# Altium integrated library Newport Power Mgt DC-DC Converter.IntLib: 312 symbols (part 4 of 5)
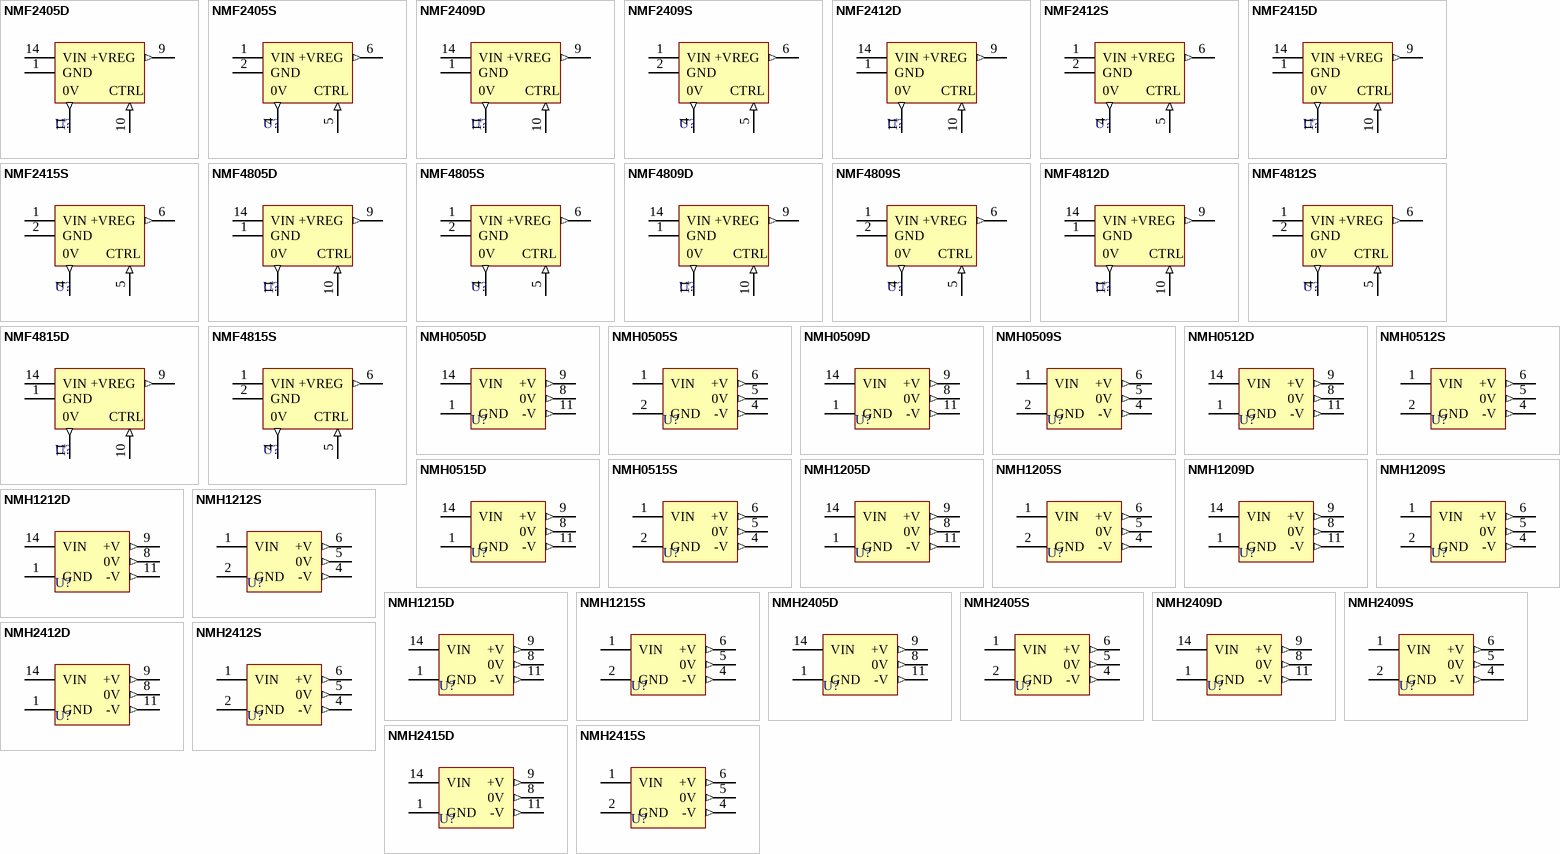
[diagram p10: symbols NMF2405D to NMH2415S]

## NMH1215D
designator U?
Isolated 2W Dual Output; Note: Pin 7 is No Internal Connection (NC) pin and is not drawn. Pins 2-6, 10, 12 and 13 are not present.; Published: 8-Jun-2000; LatestRevisionDate: 17-Jul-2002; LatestRevisionNote: PCB footprint, 'DIP-P6(14)/X1.2' replaced; Re-released for DXP Platform.; DatasheetVersion: Jul-1996; PackageVersion: 1996; PackageReference: NPDIP14; Publisher: Altium Limited; PackageDescription: DIP; 14 Rectangular pins (8 Absent); Row Space 7.62 mm; Pitch 2.54 mm; ComponentLink1Description: Manufacturer Link; ComponentLink1URL: http://www.dc-dc.com/; ComponentLink2Description: Datasheet; ComponentLink2URL: http://www.cd4power.com/data/power/ncl/ndc_nmh_3.pdf
footprint NPDIP14 (DIP; 14 Rectangular pins (8 Absent); Row Space 7.62 mm; Pitch 2.54 mm)
pins: 1 GND (power), 8 0V (out), 9 +V (out), 11 -V (out), 14 VIN (power)

## NMH1215S
designator U?
Isolated 2W Dual Output; Note: Pins 3 and 7 are not present.; Published: 8-Jun-2000; LatestRevisionDate: 17-Jul-2002; LatestRevisionNote: Re-released for DXP Platform.; DatasheetVersion: Jul-1996; PackageVersion: 1996; PackageReference: NPSIP7; Publisher: Altium Limited; PackageDescription: SIP; 7 Leads (2 Absent); Body 19.5 x 6 mm (LxW typ); Pitch 2.54 mm; ComponentLink1Description: Manufacturer Link; ComponentLink1URL: http://www.dc-dc.com/; ComponentLink2Description: Datasheet; ComponentLink2URL: http://www.cd4power.com/data/power/ncl/ndc_nmh_3.pdf
footprint NPSIP7 (SIP; 7 Leads (2 Absent); Body 19.5 x 6 mm (LxW typ); Pitch 2.54 mm)
pins: 1 VIN (power), 2 GND (power), 4 -V (out), 5 0V (out), 6 +V (out)

## NMH2405D
designator U?
Isolated 2W Dual Output; Note: Pin 7 is No Internal Connection (NC) pin and is not drawn. Pins 2-6, 10, 12 and 13 are not present.; Published: 8-Jun-2000; LatestRevisionDate: 17-Jul-2002; LatestRevisionNote: PCB footprint, 'DIP-P6(14)/X1.2' replaced; Re-released for DXP Platform.; DatasheetVersion: Jul-1996; PackageVersion: 1996; PackageReference: NPDIP14; Publisher: Altium Limited; PackageDescription: DIP; 14 Rectangular pins (8 Absent); Row Space 7.62 mm; Pitch 2.54 mm; ComponentLink1Description: Manufacturer Link; ComponentLink1URL: http://www.dc-dc.com/; ComponentLink2Description: Datasheet; ComponentLink2URL: http://www.cd4power.com/data/power/ncl/ndc_nmh_3.pdf
footprint NPDIP14 (DIP; 14 Rectangular pins (8 Absent); Row Space 7.62 mm; Pitch 2.54 mm)
pins: 1 GND (power), 8 0V (out), 9 +V (out), 11 -V (out), 14 VIN (power)

## NMH2405S
designator U?
Isolated 2W Dual Output; Note: Pins 3 and 7 are not present.; Published: 8-Jun-2000; LatestRevisionDate: 17-Jul-2002; LatestRevisionNote: Re-released for DXP Platform.; DatasheetVersion: Jul-1996; PackageVersion: 1996; PackageReference: NPSIP7; Publisher: Altium Limited; PackageDescription: SIP; 7 Leads (2 Absent); Body 19.5 x 6 mm (LxW typ); Pitch 2.54 mm; ComponentLink1Description: Manufacturer Link; ComponentLink1URL: http://www.dc-dc.com/; ComponentLink2Description: Datasheet; ComponentLink2URL: http://www.cd4power.com/data/power/ncl/ndc_nmh_3.pdf
footprint NPSIP7 (SIP; 7 Leads (2 Absent); Body 19.5 x 6 mm (LxW typ); Pitch 2.54 mm)
pins: 1 VIN (power), 2 GND (power), 4 -V (out), 5 0V (out), 6 +V (out)

## NMH2409D
designator U?
Isolated 2W Dual Output; Note: Pin 7 is No Internal Connection (NC) pin and is not drawn. Pins 2-6, 10, 12 and 13 are not present.; Published: 8-Jun-2000; LatestRevisionDate: 17-Jul-2002; LatestRevisionNote: PCB footprint, 'DIP-P6(14)/X1.2' replaced; Re-released for DXP Platform.; DatasheetVersion: Jul-1996; PackageVersion: 1996; PackageReference: NPDIP14; Publisher: Altium Limited; PackageDescription: DIP; 14 Rectangular pins (8 Absent); Row Space 7.62 mm; Pitch 2.54 mm; ComponentLink1Description: Manufacturer Link; ComponentLink1URL: http://www.dc-dc.com/; ComponentLink2Description: Datasheet; ComponentLink2URL: http://www.cd4power.com/data/power/ncl/ndc_nmh_3.pdf
footprint NPDIP14 (DIP; 14 Rectangular pins (8 Absent); Row Space 7.62 mm; Pitch 2.54 mm)
pins: 1 GND (power), 8 0V (out), 9 +V (out), 11 -V (out), 14 VIN (power)

## NMH2409S
designator U?
Isolated 2W Dual Output; Note: Pins 3 and 7 are not present.; Published: 8-Jun-2000; LatestRevisionDate: 17-Jul-2002; LatestRevisionNote: Re-released for DXP Platform.; DatasheetVersion: Jul-1996; PackageVersion: 1996; PackageReference: NPSIP7; Publisher: Altium Limited; PackageDescription: SIP; 7 Leads (2 Absent); Body 19.5 x 6 mm (LxW typ); Pitch 2.54 mm; ComponentLink1Description: Manufacturer Link; ComponentLink1URL: http://www.dc-dc.com/; ComponentLink2Description: Datasheet; ComponentLink2URL: http://www.cd4power.com/data/power/ncl/ndc_nmh_3.pdf
footprint NPSIP7 (SIP; 7 Leads (2 Absent); Body 19.5 x 6 mm (LxW typ); Pitch 2.54 mm)
pins: 1 VIN (power), 2 GND (power), 4 -V (out), 5 0V (out), 6 +V (out)

## NMH2412D
designator U?
Isolated 2W Dual Output; Note: Pin 7 is No Internal Connection (NC) pin and is not drawn. Pins 2-6, 10, 12 and 13 are not present.; Published: 8-Jun-2000; LatestRevisionDate: 17-Jul-2002; LatestRevisionNote: PCB footprint, 'DIP-P6(14)/X1.2' replaced; Re-released for DXP Platform.; DatasheetVersion: Jul-1996; PackageVersion: 1996; PackageReference: NPDIP14; Publisher: Altium Limited; PackageDescription: DIP; 14 Rectangular pins (8 Absent); Row Space 7.62 mm; Pitch 2.54 mm; ComponentLink1Description: Manufacturer Link; ComponentLink1URL: http://www.dc-dc.com/; ComponentLink2Description: Datasheet; ComponentLink2URL: http://www.cd4power.com/data/power/ncl/ndc_nmh_3.pdf
footprint NPDIP14 (DIP; 14 Rectangular pins (8 Absent); Row Space 7.62 mm; Pitch 2.54 mm)
pins: 1 GND (power), 8 0V (out), 9 +V (out), 11 -V (out), 14 VIN (power)

## NMH2412S
designator U?
Isolated 2W Dual Output; Note: Pins 3 and 7 are not present.; Published: 8-Jun-2000; LatestRevisionDate: 17-Jul-2002; LatestRevisionNote: Re-released for DXP Platform.; DatasheetVersion: Jul-1996; PackageVersion: 1996; PackageReference: NPSIP7; Publisher: Altium Limited; PackageDescription: SIP; 7 Leads (2 Absent); Body 19.5 x 6 mm (LxW typ); Pitch 2.54 mm; ComponentLink1Description: Manufacturer Link; ComponentLink1URL: http://www.dc-dc.com/; ComponentLink2Description: Datasheet; ComponentLink2URL: http://www.cd4power.com/data/power/ncl/ndc_nmh_3.pdf
footprint NPSIP7 (SIP; 7 Leads (2 Absent); Body 19.5 x 6 mm (LxW typ); Pitch 2.54 mm)
pins: 1 VIN (power), 2 GND (power), 4 -V (out), 5 0V (out), 6 +V (out)

## NMH2415D
designator U?
Isolated 2W Dual Output; Note: Pin 7 is No Internal Connection (NC) pin and is not drawn. Pins 2-6, 10, 12 and 13 are not present.; Published: 8-Jun-2000; LatestRevisionDate: 17-Jul-2002; LatestRevisionNote: PCB footprint, 'DIP-P6(14)/X1.2' replaced; Re-released for DXP Platform.; DatasheetVersion: Jul-1996; PackageVersion: 1996; PackageReference: NPDIP14; Publisher: Altium Limited; PackageDescription: DIP; 14 Rectangular pins (8 Absent); Row Space 7.62 mm; Pitch 2.54 mm; ComponentLink1Description: Manufacturer Link; ComponentLink1URL: http://www.dc-dc.com/; ComponentLink2Description: Datasheet; ComponentLink2URL: http://www.cd4power.com/data/power/ncl/ndc_nmh_3.pdf
footprint NPDIP14 (DIP; 14 Rectangular pins (8 Absent); Row Space 7.62 mm; Pitch 2.54 mm)
pins: 1 GND (power), 8 0V (out), 9 +V (out), 11 -V (out), 14 VIN (power)

## NMH2415S
designator U?
Isolated 2W Dual Output; Note: Pins 3 and 7 are not present.; Published: 8-Jun-2000; LatestRevisionDate: 17-Jul-2002; LatestRevisionNote: Re-released for DXP Platform.; DatasheetVersion: Jul-1996; PackageVersion: 1996; PackageReference: NPSIP7; Publisher: Altium Limited; PackageDescription: SIP; 7 Leads (2 Absent); Body 19.5 x 6 mm (LxW typ); Pitch 2.54 mm; ComponentLink1Description: Manufacturer Link; ComponentLink1URL: http://www.dc-dc.com/; ComponentLink2Description: Datasheet; ComponentLink2URL: http://www.cd4power.com/data/power/ncl/ndc_nmh_3.pdf
footprint NPSIP7 (SIP; 7 Leads (2 Absent); Body 19.5 x 6 mm (LxW typ); Pitch 2.54 mm)
pins: 1 VIN (power), 2 GND (power), 4 -V (out), 5 0V (out), 6 +V (out)

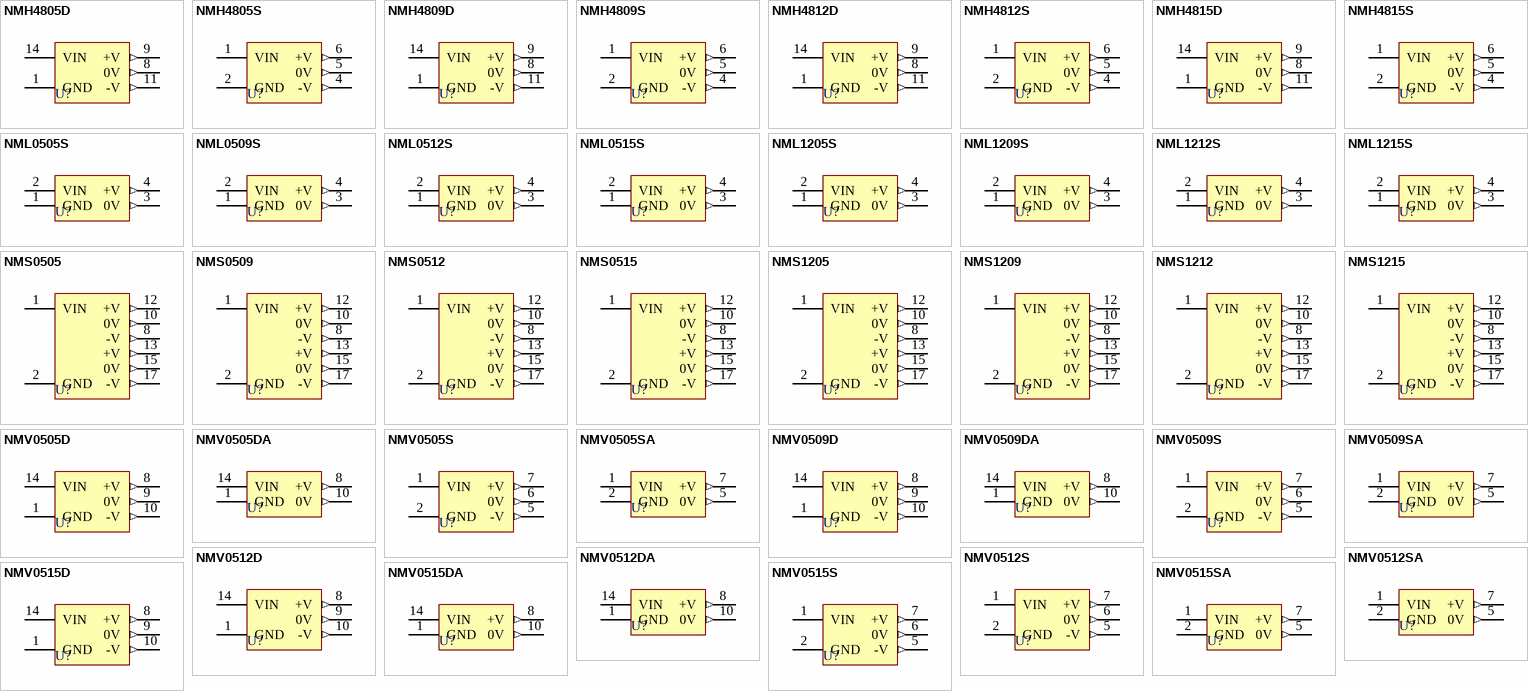
[diagram p5: symbols NMH4805D to NMV0515SA]

## NMH4805D
designator U?
Isolated 2W Dual Output; Note: Pin 7 is No Internal Connection (NC) pin and is not drawn. Pins 2-6, 10, 12 and 13 are not present.; Published: 8-Jun-2000; LatestRevisionDate: 17-Jul-2002; LatestRevisionNote: PCB footprint, 'DIP-P6(14)/X1.2' replaced; Re-released for DXP Platform.; DatasheetVersion: Jul-1996; PackageVersion: 1996; PackageReference: NPDIP14; Publisher: Altium Limited; PackageDescription: DIP; 14 Rectangular pins (8 Absent); Row Space 7.62 mm; Pitch 2.54 mm; ComponentLink1Description: Manufacturer Link; ComponentLink1URL: http://www.dc-dc.com/; ComponentLink2Description: Datasheet; ComponentLink2URL: http://www.cd4power.com/data/power/ncl/ndc_nmh_3.pdf
footprint NPDIP14 (DIP; 14 Rectangular pins (8 Absent); Row Space 7.62 mm; Pitch 2.54 mm)
pins: 1 GND (power), 8 0V (out), 9 +V (out), 11 -V (out), 14 VIN (power)

## NMH4805S
designator U?
Isolated 2W Dual Output; Note: Pins 3 and 7 are not present.; Published: 8-Jun-2000; LatestRevisionDate: 17-Jul-2002; LatestRevisionNote: Re-released for DXP Platform.; DatasheetVersion: Jul-1996; PackageVersion: 1996; PackageReference: NPSIP7; Publisher: Altium Limited; PackageDescription: SIP; 7 Leads (2 Absent); Body 19.5 x 6 mm (LxW typ); Pitch 2.54 mm; ComponentLink1Description: Manufacturer Link; ComponentLink1URL: http://www.dc-dc.com/; ComponentLink2Description: Datasheet; ComponentLink2URL: http://www.cd4power.com/data/power/ncl/ndc_nmh_3.pdf
footprint NPSIP7 (SIP; 7 Leads (2 Absent); Body 19.5 x 6 mm (LxW typ); Pitch 2.54 mm)
pins: 1 VIN (power), 2 GND (power), 4 -V (out), 5 0V (out), 6 +V (out)

## NMH4809D
designator U?
Isolated 2W Dual Output; Note: Pin 7 is No Internal Connection (NC) pin and is not drawn. Pins 2-6, 10, 12 and 13 are not present.; Published: 8-Jun-2000; LatestRevisionDate: 17-Jul-2002; LatestRevisionNote: PCB footprint, 'DIP-P6(14)/X1.2' replaced; Re-released for DXP Platform.; DatasheetVersion: Jul-1996; PackageVersion: 1996; PackageReference: NPDIP14; Publisher: Altium Limited; PackageDescription: DIP; 14 Rectangular pins (8 Absent); Row Space 7.62 mm; Pitch 2.54 mm; ComponentLink1Description: Manufacturer Link; ComponentLink1URL: http://www.dc-dc.com/; ComponentLink2Description: Datasheet; ComponentLink2URL: http://www.cd4power.com/data/power/ncl/ndc_nmh_3.pdf
footprint NPDIP14 (DIP; 14 Rectangular pins (8 Absent); Row Space 7.62 mm; Pitch 2.54 mm)
pins: 1 GND (power), 8 0V (out), 9 +V (out), 11 -V (out), 14 VIN (power)

## NMH4809S
designator U?
Isolated 2W Dual Output; Note: Pins 3 and 7 are not present.; Published: 8-Jun-2000; LatestRevisionDate: 17-Jul-2002; LatestRevisionNote: Re-released for DXP Platform.; DatasheetVersion: Jul-1996; PackageVersion: 1996; PackageReference: NPSIP7; Publisher: Altium Limited; PackageDescription: SIP; 7 Leads (2 Absent); Body 19.5 x 6 mm (LxW typ); Pitch 2.54 mm; ComponentLink1Description: Manufacturer Link; ComponentLink1URL: http://www.dc-dc.com/; ComponentLink2Description: Datasheet; ComponentLink2URL: http://www.cd4power.com/data/power/ncl/ndc_nmh_3.pdf
footprint NPSIP7 (SIP; 7 Leads (2 Absent); Body 19.5 x 6 mm (LxW typ); Pitch 2.54 mm)
pins: 1 VIN (power), 2 GND (power), 4 -V (out), 5 0V (out), 6 +V (out)

## NMH4812D
designator U?
Isolated 2W Dual Output; Note: Pin 7 is No Internal Connection (NC) pin and is not drawn. Pins 2-6, 10, 12 and 13 are not present.; Published: 8-Jun-2000; LatestRevisionDate: 17-Jul-2002; LatestRevisionNote: PCB footprint, 'DIP-P6(14)/X1.2' replaced; Re-released for DXP Platform.; DatasheetVersion: Jul-1996; PackageVersion: 1996; PackageReference: NPDIP14; Publisher: Altium Limited; PackageDescription: DIP; 14 Rectangular pins (8 Absent); Row Space 7.62 mm; Pitch 2.54 mm; ComponentLink1Description: Manufacturer Link; ComponentLink1URL: http://www.dc-dc.com/; ComponentLink2Description: Datasheet; ComponentLink2URL: http://www.cd4power.com/data/power/ncl/ndc_nmh_3.pdf
footprint NPDIP14 (DIP; 14 Rectangular pins (8 Absent); Row Space 7.62 mm; Pitch 2.54 mm)
pins: 1 GND (power), 8 0V (out), 9 +V (out), 11 -V (out), 14 VIN (power)

## NMH4812S
designator U?
Isolated 2W Dual Output; Note: Pins 3 and 7 are not present.; Published: 8-Jun-2000; LatestRevisionDate: 17-Jul-2002; LatestRevisionNote: Re-released for DXP Platform.; DatasheetVersion: Jul-1996; PackageVersion: 1996; PackageReference: NPSIP7; Publisher: Altium Limited; PackageDescription: SIP; 7 Leads (2 Absent); Body 19.5 x 6 mm (LxW typ); Pitch 2.54 mm; ComponentLink1Description: Manufacturer Link; ComponentLink1URL: http://www.dc-dc.com/; ComponentLink2Description: Datasheet; ComponentLink2URL: http://www.cd4power.com/data/power/ncl/ndc_nmh_3.pdf
footprint NPSIP7 (SIP; 7 Leads (2 Absent); Body 19.5 x 6 mm (LxW typ); Pitch 2.54 mm)
pins: 1 VIN (power), 2 GND (power), 4 -V (out), 5 0V (out), 6 +V (out)

## NMH4815D
designator U?
Isolated 2W Dual Output; Note: Pin 7 is No Internal Connection (NC) pin and is not drawn. Pins 2-6, 10, 12 and 13 are not present.; Published: 8-Jun-2000; LatestRevisionDate: 17-Jul-2002; LatestRevisionNote: PCB footprint, 'DIP-P6(14)/X1.2' replaced; Re-released for DXP Platform.; DatasheetVersion: Jul-1996; PackageVersion: 1996; PackageReference: NPDIP14; Publisher: Altium Limited; PackageDescription: DIP; 14 Rectangular pins (8 Absent); Row Space 7.62 mm; Pitch 2.54 mm; ComponentLink1Description: Manufacturer Link; ComponentLink1URL: http://www.dc-dc.com/; ComponentLink2Description: Datasheet; ComponentLink2URL: http://www.cd4power.com/data/power/ncl/ndc_nmh_3.pdf
footprint NPDIP14 (DIP; 14 Rectangular pins (8 Absent); Row Space 7.62 mm; Pitch 2.54 mm)
pins: 1 GND (power), 8 0V (out), 9 +V (out), 11 -V (out), 14 VIN (power)

## NMH4815S
designator U?
Isolated 2W Dual Output; Note: Pins 3 and 7 are not present.; Published: 8-Jun-2000; LatestRevisionDate: 17-Jul-2002; LatestRevisionNote: Re-released for DXP Platform.; DatasheetVersion: Jul-1996; PackageVersion: 1996; PackageReference: NPSIP7; Publisher: Altium Limited; PackageDescription: SIP; 7 Leads (2 Absent); Body 19.5 x 6 mm (LxW typ); Pitch 2.54 mm; ComponentLink1Description: Manufacturer Link; ComponentLink1URL: http://www.dc-dc.com/; ComponentLink2Description: Datasheet; ComponentLink2URL: http://www.cd4power.com/data/power/ncl/ndc_nmh_3.pdf
footprint NPSIP7 (SIP; 7 Leads (2 Absent); Body 19.5 x 6 mm (LxW typ); Pitch 2.54 mm)
pins: 1 VIN (power), 2 GND (power), 4 -V (out), 5 0V (out), 6 +V (out)

## NML0505S
designator U?
Isolated 2W Single Output; Published: 8-Jun-2000; LatestRevisionDate: 17-Jul-2002; LatestRevisionNote: Re-released for DXP Platform.; DatasheetVersion: Jul-1996; PackageVersion: 1996; PackageReference: NPSIP4B; Publisher: Altium Limited; PackageDescription: SIP; 4 Leads; Body 10 x 14 x 7.5 mm (typ); Pitch 2.54 mm; ComponentLink1Description: Manufacturer Link; ComponentLink1URL: http://www.dc-dc.com/; ComponentLink2Description: Datasheet; ComponentLink2URL: http://www.cd4power.com/data/power/ncl/ndc_nml_3.pdf
footprint NPSIP4B (SIP; 4 Leads; Body 10 x 14 x 7.5 mm (typ); Pitch 2.54 mm)
pins: 1 GND (power), 2 VIN (power), 3 0V (out), 4 +V (out)

## NML0509S
designator U?
Isolated 2W Single Output; Published: 8-Jun-2000; LatestRevisionDate: 17-Jul-2002; LatestRevisionNote: Re-released for DXP Platform.; DatasheetVersion: Jul-1996; PackageVersion: 1996; PackageReference: NPSIP4B; Publisher: Altium Limited; PackageDescription: SIP; 4 Leads; Body 10 x 14 x 7.5 mm (typ); Pitch 2.54 mm; ComponentLink1Description: Manufacturer Link; ComponentLink1URL: http://www.dc-dc.com/; ComponentLink2Description: Datasheet; ComponentLink2URL: http://www.cd4power.com/data/power/ncl/ndc_nml_3.pdf
footprint NPSIP4B (SIP; 4 Leads; Body 10 x 14 x 7.5 mm (typ); Pitch 2.54 mm)
pins: 1 GND (power), 2 VIN (power), 3 0V (out), 4 +V (out)

## NML0512S
designator U?
Isolated 2W Single Output; Published: 8-Jun-2000; LatestRevisionDate: 17-Jul-2002; LatestRevisionNote: Re-released for DXP Platform.; DatasheetVersion: Jul-1996; PackageVersion: 1996; PackageReference: NPSIP4B; Publisher: Altium Limited; PackageDescription: SIP; 4 Leads; Body 10 x 14 x 7.5 mm (typ); Pitch 2.54 mm; ComponentLink1Description: Manufacturer Link; ComponentLink1URL: http://www.dc-dc.com/; ComponentLink2Description: Datasheet; ComponentLink2URL: http://www.cd4power.com/data/power/ncl/ndc_nml_3.pdf
footprint NPSIP4B (SIP; 4 Leads; Body 10 x 14 x 7.5 mm (typ); Pitch 2.54 mm)
pins: 1 GND (power), 2 VIN (power), 3 0V (out), 4 +V (out)

## NML0515S
designator U?
Isolated 2W Single Output; Published: 8-Jun-2000; LatestRevisionDate: 17-Jul-2002; LatestRevisionNote: Re-released for DXP Platform.; DatasheetVersion: Jul-1996; PackageVersion: 1996; PackageReference: NPSIP4B; Publisher: Altium Limited; PackageDescription: SIP; 4 Leads; Body 10 x 14 x 7.5 mm (typ); Pitch 2.54 mm; ComponentLink1Description: Manufacturer Link; ComponentLink1URL: http://www.dc-dc.com/; ComponentLink2Description: Datasheet; ComponentLink2URL: http://www.cd4power.com/data/power/ncl/ndc_nml_3.pdf
footprint NPSIP4B (SIP; 4 Leads; Body 10 x 14 x 7.5 mm (typ); Pitch 2.54 mm)
pins: 1 GND (power), 2 VIN (power), 3 0V (out), 4 +V (out)

## NML1205S
designator U?
Isolated 2W Single Output; Published: 8-Jun-2000; LatestRevisionDate: 17-Jul-2002; LatestRevisionNote: Re-released for DXP Platform.; DatasheetVersion: Jul-1996; PackageVersion: 1996; PackageReference: NPSIP4B; Publisher: Altium Limited; PackageDescription: SIP; 4 Leads; Body 10 x 14 x 7.5 mm (typ); Pitch 2.54 mm; ComponentLink1Description: Manufacturer Link; ComponentLink1URL: http://www.dc-dc.com/; ComponentLink2Description: Datasheet; ComponentLink2URL: http://www.cd4power.com/data/power/ncl/ndc_nml_3.pdf
footprint NPSIP4B (SIP; 4 Leads; Body 10 x 14 x 7.5 mm (typ); Pitch 2.54 mm)
pins: 1 GND (power), 2 VIN (power), 3 0V (out), 4 +V (out)

## NML1209S
designator U?
Isolated 2W Single Output; Published: 8-Jun-2000; LatestRevisionDate: 17-Jul-2002; LatestRevisionNote: Re-released for DXP Platform.; DatasheetVersion: Jul-1996; PackageVersion: 1996; PackageReference: NPSIP4B; Publisher: Altium Limited; PackageDescription: SIP; 4 Leads; Body 10 x 14 x 7.5 mm (typ); Pitch 2.54 mm; ComponentLink1Description: Manufacturer Link; ComponentLink1URL: http://www.dc-dc.com/; ComponentLink2Description: Datasheet; ComponentLink2URL: http://www.cd4power.com/data/power/ncl/ndc_nml_3.pdf
footprint NPSIP4B (SIP; 4 Leads; Body 10 x 14 x 7.5 mm (typ); Pitch 2.54 mm)
pins: 1 GND (power), 2 VIN (power), 3 0V (out), 4 +V (out)

## NML1212S
designator U?
Isolated 2W Single Output; Published: 8-Jun-2000; LatestRevisionDate: 17-Jul-2002; LatestRevisionNote: Re-released for DXP Platform.; DatasheetVersion: Jul-1996; PackageVersion: 1996; PackageReference: NPSIP4B; Publisher: Altium Limited; PackageDescription: SIP; 4 Leads; Body 10 x 14 x 7.5 mm (typ); Pitch 2.54 mm; ComponentLink1Description: Manufacturer Link; ComponentLink1URL: http://www.dc-dc.com/; ComponentLink2Description: Datasheet; ComponentLink2URL: http://www.cd4power.com/data/power/ncl/ndc_nml_3.pdf
footprint NPSIP4B (SIP; 4 Leads; Body 10 x 14 x 7.5 mm (typ); Pitch 2.54 mm)
pins: 1 GND (power), 2 VIN (power), 3 0V (out), 4 +V (out)

## NML1215S
designator U?
Isolated 2W Single Output; Published: 8-Jun-2000; LatestRevisionDate: 17-Jul-2002; LatestRevisionNote: Re-released for DXP Platform.; DatasheetVersion: Jul-1996; PackageVersion: 1996; PackageReference: NPSIP4B; Publisher: Altium Limited; PackageDescription: SIP; 4 Leads; Body 10 x 14 x 7.5 mm (typ); Pitch 2.54 mm; ComponentLink1Description: Manufacturer Link; ComponentLink1URL: http://www.dc-dc.com/; ComponentLink2Description: Datasheet; ComponentLink2URL: http://www.cd4power.com/data/power/ncl/ndc_nml_3.pdf
footprint NPSIP4B (SIP; 4 Leads; Body 10 x 14 x 7.5 mm (typ); Pitch 2.54 mm)
pins: 1 GND (power), 2 VIN (power), 3 0V (out), 4 +V (out)

## NMS0505
designator U?
6kVDC Isolated 2W Dual Output; Note: Pins 9, 11, 14, 16, 23 and 24 are No Internal Connection (NC) pins and are not drawn. Pins 2-7 and 18-22 are not present.; Published: 8-Jun-2000; LatestRevisionDate: 17-Jul-2002; LatestRevisionNote: Re-released for DXP Platform.; DatasheetVersion: Jul-1996; PackageReference: NPDIL24; Publisher: Altium Limited; PackageDescription: DIP; 24 Leads (10 Absent); Row Spacing 15.24 mm; Pitch 2.54 mm; ComponentLink1Description: Manufacturer Link; ComponentLink1URL: http://www.dc-dc.com/; ComponentLink2Description: Datasheet; ComponentLink2URL: http://www.cd4power.com/data/power/ncl/ndc_nms_3.pdf
footprint NPDIL24 (DIP; 24 Leads (10 Absent); Row Spacing 15.24 mm; Pitch 2.54 mm)
pins: 1 VIN (power), 2 GND (power), 8 -V (out), 10 0V (out), 12 +V (out), 13 +V (out), 15 0V (out), 17 -V (out)

## NMS0509
designator U?
6kVDC Isolated 2W Dual Output; Note: Pins 9, 11, 14, 16, 23 and 24 are No Internal Connection (NC) pins and are not drawn. Pins 2-7 and 18-22 are not present.; Published: 8-Jun-2000; LatestRevisionDate: 17-Jul-2002; LatestRevisionNote: Re-released for DXP Platform.; DatasheetVersion: Jul-1996; PackageReference: NPDIL24; Publisher: Altium Limited; PackageDescription: DIP; 24 Leads (10 Absent); Row Spacing 15.24 mm; Pitch 2.54 mm; ComponentLink1Description: Manufacturer Link; ComponentLink1URL: http://www.dc-dc.com/; ComponentLink2Description: Datasheet; ComponentLink2URL: http://www.cd4power.com/data/power/ncl/ndc_nms_3.pdf
footprint NPDIL24 (DIP; 24 Leads (10 Absent); Row Spacing 15.24 mm; Pitch 2.54 mm)
pins: 1 VIN (power), 2 GND (power), 8 -V (out), 10 0V (out), 12 +V (out), 13 +V (out), 15 0V (out), 17 -V (out)

## NMS0512
designator U?
6kVDC Isolated 2W Dual Output; Note: Pins 9, 11, 14, 16, 23 and 24 are No Internal Connection (NC) pins and are not drawn. Pins 2-7 and 18-22 are not present.; Published: 8-Jun-2000; LatestRevisionDate: 17-Jul-2002; LatestRevisionNote: Re-released for DXP Platform.; DatasheetVersion: Jul-1996; PackageReference: NPDIL24; Publisher: Altium Limited; PackageDescription: DIP; 24 Leads (10 Absent); Row Spacing 15.24 mm; Pitch 2.54 mm; ComponentLink1Description: Manufacturer Link; ComponentLink1URL: http://www.dc-dc.com/; ComponentLink2Description: Datasheet; ComponentLink2URL: http://www.cd4power.com/data/power/ncl/ndc_nms_3.pdf
footprint NPDIL24 (DIP; 24 Leads (10 Absent); Row Spacing 15.24 mm; Pitch 2.54 mm)
pins: 1 VIN (power), 2 GND (power), 8 -V (out), 10 0V (out), 12 +V (out), 13 +V (out), 15 0V (out), 17 -V (out)

## NMS0515
designator U?
6kVDC Isolated 2W Dual Output; Note: Pins 9, 11, 14, 16, 23 and 24 are No Internal Connection (NC) pins and are not drawn. Pins 2-7 and 18-22 are not present.; Published: 8-Jun-2000; LatestRevisionDate: 17-Jul-2002; LatestRevisionNote: Re-released for DXP Platform.; DatasheetVersion: Jul-1996; PackageReference: NPDIL24; Publisher: Altium Limited; PackageDescription: DIP; 24 Leads (10 Absent); Row Spacing 15.24 mm; Pitch 2.54 mm; ComponentLink1Description: Manufacturer Link; ComponentLink1URL: http://www.dc-dc.com/; ComponentLink2Description: Datasheet; ComponentLink2URL: http://www.cd4power.com/data/power/ncl/ndc_nms_3.pdf
footprint NPDIL24 (DIP; 24 Leads (10 Absent); Row Spacing 15.24 mm; Pitch 2.54 mm)
pins: 1 VIN (power), 2 GND (power), 8 -V (out), 10 0V (out), 12 +V (out), 13 +V (out), 15 0V (out), 17 -V (out)

## NMS1205
designator U?
6kVDC Isolated 2W Dual Output; Note: Pins 9, 11, 14, 16, 23 and 24 are No Internal Connection (NC) pins and are not drawn. Pins 2-7 and 18-22 are not present.; Published: 8-Jun-2000; LatestRevisionDate: 17-Jul-2002; LatestRevisionNote: Re-released for DXP Platform.; DatasheetVersion: Jul-1996; PackageReference: NPDIL24; Publisher: Altium Limited; PackageDescription: DIP; 24 Leads (10 Absent); Row Spacing 15.24 mm; Pitch 2.54 mm; ComponentLink1Description: Manufacturer Link; ComponentLink1URL: http://www.dc-dc.com/; ComponentLink2Description: Datasheet; ComponentLink2URL: http://www.cd4power.com/data/power/ncl/ndc_nms_3.pdf
footprint NPDIL24 (DIP; 24 Leads (10 Absent); Row Spacing 15.24 mm; Pitch 2.54 mm)
pins: 1 VIN (power), 2 GND (power), 8 -V (out), 10 0V (out), 12 +V (out), 13 +V (out), 15 0V (out), 17 -V (out)

## NMS1209
designator U?
6kVDC Isolated 2W Dual Output; Note: Pins 9, 11, 14, 16, 23 and 24 are No Internal Connection (NC) pins and are not drawn. Pins 2-7 and 18-22 are not present.; Published: 8-Jun-2000; LatestRevisionDate: 17-Jul-2002; LatestRevisionNote: Re-released for DXP Platform.; DatasheetVersion: Jul-1996; PackageReference: NPDIL24; Publisher: Altium Limited; PackageDescription: DIP; 24 Leads (10 Absent); Row Spacing 15.24 mm; Pitch 2.54 mm; ComponentLink1Description: Manufacturer Link; ComponentLink1URL: http://www.dc-dc.com/; ComponentLink2Description: Datasheet; ComponentLink2URL: http://www.cd4power.com/data/power/ncl/ndc_nms_3.pdf
footprint NPDIL24 (DIP; 24 Leads (10 Absent); Row Spacing 15.24 mm; Pitch 2.54 mm)
pins: 1 VIN (power), 2 GND (power), 8 -V (out), 10 0V (out), 12 +V (out), 13 +V (out), 15 0V (out), 17 -V (out)

## NMS1212
designator U?
6kVDC Isolated 2W Dual Output; Note: Pins 9, 11, 14, 16, 23 and 24 are No Internal Connection (NC) pins and are not drawn. Pins 2-7 and 18-22 are not present.; Published: 8-Jun-2000; LatestRevisionDate: 17-Jul-2002; LatestRevisionNote: Re-released for DXP Platform.; DatasheetVersion: Jul-1996; PackageReference: NPDIL24; Publisher: Altium Limited; PackageDescription: DIP; 24 Leads (10 Absent); Row Spacing 15.24 mm; Pitch 2.54 mm; ComponentLink1Description: Manufacturer Link; ComponentLink1URL: http://www.dc-dc.com/; ComponentLink2Description: Datasheet; ComponentLink2URL: http://www.cd4power.com/data/power/ncl/ndc_nms_3.pdf
footprint NPDIL24 (DIP; 24 Leads (10 Absent); Row Spacing 15.24 mm; Pitch 2.54 mm)
pins: 1 VIN (power), 2 GND (power), 8 -V (out), 10 0V (out), 12 +V (out), 13 +V (out), 15 0V (out), 17 -V (out)

## NMS1215
designator U?
6kVDC Isolated 2W Dual Output; Note: Pins 9, 11, 14, 16, 23 and 24 are No Internal Connection (NC) pins and are not drawn. Pins 2-7 and 18-22 are not present.; Published: 8-Jun-2000; LatestRevisionDate: 17-Jul-2002; LatestRevisionNote: Re-released for DXP Platform.; DatasheetVersion: Jul-1996; PackageReference: NPDIL24; Publisher: Altium Limited; PackageDescription: DIP; 24 Leads (10 Absent); Row Spacing 15.24 mm; Pitch 2.54 mm; ComponentLink1Description: Manufacturer Link; ComponentLink1URL: http://www.dc-dc.com/; ComponentLink2Description: Datasheet; ComponentLink2URL: http://www.cd4power.com/data/power/ncl/ndc_nms_3.pdf
footprint NPDIL24 (DIP; 24 Leads (10 Absent); Row Spacing 15.24 mm; Pitch 2.54 mm)
pins: 1 VIN (power), 2 GND (power), 8 -V (out), 10 0V (out), 12 +V (out), 13 +V (out), 15 0V (out), 17 -V (out)

## NMV0505D
designator U?
3kVDC Isolated 1W Dual Output; Note: Pin 7 is No Internal Connection (NC) pin and is not drawn. Pins 2-6, 11, 12 and 13 are not present.; Published: 8-Jun-2000; LatestRevisionDate: 17-Jul-2002; LatestRevisionNote: Re-released for DXP Platform.; DatasheetVersion: Jul-1996; PackageVersion: 1996; PackageReference: NPDIP14E3; Publisher: Altium Limited; PackageDescription: DIP; 14 Rectangular pins (8 Absent); Row Space 7.62 mm; Pitch 2.54 mm; ComponentLink1Description: Manufacturer Link; ComponentLink1URL: http://www.dc-dc.com/; ComponentLink2Description: Datasheet; ComponentLink2URL: http://www.cd4power.com/data/power/ncl/ndc_nmv_3.pdf
footprint NPDIP14E3 (DIP; 14 Rectangular pins (8 Absent); Row Space 7.62 mm; Pitch 2.54 mm)
pins: 1 GND (power), 8 +V (out), 9 0V (out), 10 -V (out), 14 VIN (power)

## NMV0505DA
designator U?
3kVDC Isolated 1W Single Output; Note: Pin 7 is No Internal Connection (NC) pin and is not drawn. Pins 2-6, 9, 12 and 13 are not present.; Published: 8-Jun-2000; LatestRevisionDate: 17-Jul-2002; LatestRevisionNote: PCB footprint, 'DIP-P5(14)/X1.2' replaced; Re-released for DXP Platform.; DatasheetVersion: Jul-1996; PackageVersion: 1996; PackageReference: NPDIP14D1; Publisher: Altium Limited; PackageDescription: DIP; 14 Rectangular pins (9 Absent); Row Space 7.62 mm; Pitch 2.54 mm; ComponentLink1Description: Manufacturer Link; ComponentLink1URL: http://www.dc-dc.com/; ComponentLink2Description: Datasheet; ComponentLink2URL: http://www.cd4power.com/data/power/ncl/ndc_nmv_3.pdf
footprint NPDIP14D1 (DIP; 14 Rectangular pins (9 Absent); Row Space 7.62 mm; Pitch 2.54 mm)
pins: 1 GND (power), 8 +V (out), 10 0V (out), 14 VIN (power)

## NMV0505S
designator U?
3kVDC Isolated 1W Dual Output; Note: Pins 3 and 4 are not present.; Published: 8-Jun-2000; LatestRevisionDate: 17-Jul-2002; LatestRevisionNote: Re-released for DXP Platform.; DatasheetVersion: Jul-1996; PackageVersion: 1996; PackageReference: NPSIP7D7; Publisher: Altium Limited; PackageDescription: SIP; 7 Leads (2 Absent); Body 19.5 x 6 mm (LxW typ); Pitch 2.54 mm; ComponentLink1Description: Manufacturer Link; ComponentLink1URL: http://www.dc-dc.com/; ComponentLink2Description: Datasheet; ComponentLink2URL: http://www.cd4power.com/data/power/ncl/ndc_nmv_3.pdf
footprint NPSIP7D7 (SIP; 7 Leads (2 Absent); Body 19.5 x 6 mm (LxW typ); Pitch 2.54 mm)
pins: 1 VIN (power), 2 GND (power), 5 -V (out), 6 0V (out), 7 +V (out)

## NMV0505SA
designator U?
3kVDC Isolated 1W Single Output; Note: Pins 3, 4 and 6 are not present.; Published: 8-Jun-2000; LatestRevisionDate: 17-Jul-2002; LatestRevisionNote: Re-released for DXP Platform.; DatasheetVersion: Jul-1996; PackageVersion: 1996; PackageReference: NPSIP7C5; Publisher: Altium Limited; PackageDescription: SIP; 7 Leads (3 Absent); Body 19.5 x 6 mm (LxW typ); Pitch 2.54 mm; ComponentLink1Description: Manufacturer Link; ComponentLink1URL: http://www.dc-dc.com/; ComponentLink2Description: Datasheet; ComponentLink2URL: http://www.cd4power.com/data/power/ncl/ndc_nmv_3.pdf
footprint NPSIP7C5 (SIP; 7 Leads (3 Absent); Body 19.5 x 6 mm (LxW typ); Pitch 2.54 mm)
pins: 1 VIN (power), 2 GND (power), 5 0V (out), 7 +V (out)

## NMV0509D
designator U?
3kVDC Isolated 1W Dual Output; Note: Pin 7 is No Internal Connection (NC) pin and is not drawn. Pins 2-6, 11, 12 and 13 are not present.; Published: 8-Jun-2000; LatestRevisionDate: 17-Jul-2002; LatestRevisionNote: Re-released for DXP Platform.; DatasheetVersion: Jul-1996; PackageVersion: 1996; PackageReference: NPDIP14E3; Publisher: Altium Limited; PackageDescription: DIP; 14 Rectangular pins (8 Absent); Row Space 7.62 mm; Pitch 2.54 mm; ComponentLink1Description: Manufacturer Link; ComponentLink1URL: http://www.dc-dc.com/; ComponentLink2Description: Datasheet; ComponentLink2URL: http://www.cd4power.com/data/power/ncl/ndc_nmv_3.pdf
footprint NPDIP14E3 (DIP; 14 Rectangular pins (8 Absent); Row Space 7.62 mm; Pitch 2.54 mm)
pins: 1 GND (power), 8 +V (out), 9 0V (out), 10 -V (out), 14 VIN (power)

## NMV0509DA
designator U?
3kVDC Isolated 1W Single Output; Note: Pin 7 is No Internal Connection (NC) pin and is not drawn. Pins 2-6, 9, 12 and 13 are not present.; Published: 8-Jun-2000; LatestRevisionDate: 17-Jul-2002; LatestRevisionNote: PCB footprint, 'DIP-P5(14)/X1.2' replaced; Re-released for DXP Platform.; DatasheetVersion: Jul-1996; PackageVersion: 1996; PackageReference: NPDIP14D1; Publisher: Altium Limited; PackageDescription: DIP; 14 Rectangular pins (9 Absent); Row Space 7.62 mm; Pitch 2.54 mm; ComponentLink1Description: Manufacturer Link; ComponentLink1URL: http://www.dc-dc.com/; ComponentLink2Description: Datasheet; ComponentLink2URL: http://www.cd4power.com/data/power/ncl/ndc_nmv_3.pdf
footprint NPDIP14D1 (DIP; 14 Rectangular pins (9 Absent); Row Space 7.62 mm; Pitch 2.54 mm)
pins: 1 GND (power), 8 +V (out), 10 0V (out), 14 VIN (power)

## NMV0509S
designator U?
3kVDC Isolated 1W Dual Output; Note: Pins 3 and 4 are not present.; Published: 8-Jun-2000; LatestRevisionDate: 17-Jul-2002; LatestRevisionNote: Re-released for DXP Platform.; DatasheetVersion: Jul-1996; PackageVersion: 1996; PackageReference: NPSIP7D7; Publisher: Altium Limited; PackageDescription: SIP; 7 Leads (2 Absent); Body 19.5 x 6 mm (LxW typ); Pitch 2.54 mm; ComponentLink1Description: Manufacturer Link; ComponentLink1URL: http://www.dc-dc.com/; ComponentLink2Description: Datasheet; ComponentLink2URL: http://www.cd4power.com/data/power/ncl/ndc_nmv_3.pdf
footprint NPSIP7D7 (SIP; 7 Leads (2 Absent); Body 19.5 x 6 mm (LxW typ); Pitch 2.54 mm)
pins: 1 VIN (power), 2 GND (power), 5 -V (out), 6 0V (out), 7 +V (out)

## NMV0509SA
designator U?
3kVDC Isolated 1W Single Output; Note: Pins 3, 4 and 6 are not present.; Published: 8-Jun-2000; LatestRevisionDate: 17-Jul-2002; LatestRevisionNote: Re-released for DXP Platform.; DatasheetVersion: Jul-1996; PackageVersion: 1996; PackageReference: NPSIP7C5; Publisher: Altium Limited; PackageDescription: SIP; 7 Leads (3 Absent); Body 19.5 x 6 mm (LxW typ); Pitch 2.54 mm; ComponentLink1Description: Manufacturer Link; ComponentLink1URL: http://www.dc-dc.com/; ComponentLink2Description: Datasheet; ComponentLink2URL: http://www.cd4power.com/data/power/ncl/ndc_nmv_3.pdf
footprint NPSIP7C5 (SIP; 7 Leads (3 Absent); Body 19.5 x 6 mm (LxW typ); Pitch 2.54 mm)
pins: 1 VIN (power), 2 GND (power), 5 0V (out), 7 +V (out)

## NMV0512D
designator U?
3kVDC Isolated 1W Dual Output; Note: Pin 7 is No Internal Connection (NC) pin and is not drawn. Pins 2-6, 11, 12 and 13 are not present.; Published: 8-Jun-2000; LatestRevisionDate: 17-Jul-2002; LatestRevisionNote: Re-released for DXP Platform.; DatasheetVersion: Jul-1996; PackageVersion: 1996; PackageReference: NPDIP14E3; Publisher: Altium Limited; PackageDescription: DIP; 14 Rectangular pins (8 Absent); Row Space 7.62 mm; Pitch 2.54 mm; ComponentLink1Description: Manufacturer Link; ComponentLink1URL: http://www.dc-dc.com/; ComponentLink2Description: Datasheet; ComponentLink2URL: http://www.cd4power.com/data/power/ncl/ndc_nmv_3.pdf
footprint NPDIP14E3 (DIP; 14 Rectangular pins (8 Absent); Row Space 7.62 mm; Pitch 2.54 mm)
pins: 1 GND (power), 8 +V (out), 9 0V (out), 10 -V (out), 14 VIN (power)

## NMV0512DA
designator U?
3kVDC Isolated 1W Single Output; Note: Pin 7 is No Internal Connection (NC) pin and is not drawn. Pins 2-6, 9, 12 and 13 are not present.; Published: 8-Jun-2000; LatestRevisionDate: 17-Jul-2002; LatestRevisionNote: PCB footprint, 'DIP-P5(14)/X1.2' replaced; Re-released for DXP Platform.; DatasheetVersion: Jul-1996; PackageVersion: 1996; PackageReference: NPDIP14D1; Publisher: Altium Limited; PackageDescription: DIP; 14 Rectangular pins (9 Absent); Row Space 7.62 mm; Pitch 2.54 mm; ComponentLink1Description: Manufacturer Link; ComponentLink1URL: http://www.dc-dc.com/; ComponentLink2Description: Datasheet; ComponentLink2URL: http://www.cd4power.com/data/power/ncl/ndc_nmv_3.pdf
footprint NPDIP14D1 (DIP; 14 Rectangular pins (9 Absent); Row Space 7.62 mm; Pitch 2.54 mm)
pins: 1 GND (power), 8 +V (out), 10 0V (out), 14 VIN (power)

## NMV0512S
designator U?
3kVDC Isolated 1W Dual Output; Note: Pins 3 and 4 are not present.; Published: 8-Jun-2000; LatestRevisionDate: 17-Jul-2002; LatestRevisionNote: Re-released for DXP Platform.; DatasheetVersion: Jul-1996; PackageVersion: 1996; PackageReference: NPSIP7D7; Publisher: Altium Limited; PackageDescription: SIP; 7 Leads (2 Absent); Body 19.5 x 6 mm (LxW typ); Pitch 2.54 mm; ComponentLink1Description: Manufacturer Link; ComponentLink1URL: http://www.dc-dc.com/; ComponentLink2Description: Datasheet; ComponentLink2URL: http://www.cd4power.com/data/power/ncl/ndc_nmv_3.pdf
footprint NPSIP7D7 (SIP; 7 Leads (2 Absent); Body 19.5 x 6 mm (LxW typ); Pitch 2.54 mm)
pins: 1 VIN (power), 2 GND (power), 5 -V (out), 6 0V (out), 7 +V (out)

## NMV0512SA
designator U?
3kVDC Isolated 1W Single Output; Note: Pins 3, 4 and 6 are not present.; Published: 8-Jun-2000; LatestRevisionDate: 17-Jul-2002; LatestRevisionNote: Re-released for DXP Platform.; DatasheetVersion: Jul-1996; PackageVersion: 1996; PackageReference: NPSIP7C5; Publisher: Altium Limited; PackageDescription: SIP; 7 Leads (3 Absent); Body 19.5 x 6 mm (LxW typ); Pitch 2.54 mm; ComponentLink1Description: Manufacturer Link; ComponentLink1URL: http://www.dc-dc.com/; ComponentLink2Description: Datasheet; ComponentLink2URL: http://www.cd4power.com/data/power/ncl/ndc_nmv_3.pdf
footprint NPSIP7C5 (SIP; 7 Leads (3 Absent); Body 19.5 x 6 mm (LxW typ); Pitch 2.54 mm)
pins: 1 VIN (power), 2 GND (power), 5 0V (out), 7 +V (out)

## NMV0515D
designator U?
3kVDC Isolated 1W Dual Output; Note: Pin 7 is No Internal Connection (NC) pin and is not drawn. Pins 2-6, 11, 12 and 13 are not present.; Published: 8-Jun-2000; LatestRevisionDate: 17-Jul-2002; LatestRevisionNote: Re-released for DXP Platform.; DatasheetVersion: Jul-1996; PackageVersion: 1996; PackageReference: NPDIP14E3; Publisher: Altium Limited; PackageDescription: DIP; 14 Rectangular pins (8 Absent); Row Space 7.62 mm; Pitch 2.54 mm; ComponentLink1Description: Manufacturer Link; ComponentLink1URL: http://www.dc-dc.com/; ComponentLink2Description: Datasheet; ComponentLink2URL: http://www.cd4power.com/data/power/ncl/ndc_nmv_3.pdf
footprint NPDIP14E3 (DIP; 14 Rectangular pins (8 Absent); Row Space 7.62 mm; Pitch 2.54 mm)
pins: 1 GND (power), 8 +V (out), 9 0V (out), 10 -V (out), 14 VIN (power)

## NMV0515DA
designator U?
3kVDC Isolated 1W Single Output; Note: Pin 7 is No Internal Connection (NC) pin and is not drawn. Pins 2-6, 9, 12 and 13 are not present.; Published: 8-Jun-2000; LatestRevisionDate: 17-Jul-2002; LatestRevisionNote: PCB footprint, 'DIP-P5(14)/X1.2' replaced; Re-released for DXP Platform.; DatasheetVersion: Jul-1996; PackageVersion: 1996; PackageReference: NPDIP14D1; Publisher: Altium Limited; PackageDescription: DIP; 14 Rectangular pins (9 Absent); Row Space 7.62 mm; Pitch 2.54 mm; ComponentLink1Description: Manufacturer Link; ComponentLink1URL: http://www.dc-dc.com/; ComponentLink2Description: Datasheet; ComponentLink2URL: http://www.cd4power.com/data/power/ncl/ndc_nmv_3.pdf
footprint NPDIP14D1 (DIP; 14 Rectangular pins (9 Absent); Row Space 7.62 mm; Pitch 2.54 mm)
pins: 1 GND (power), 8 +V (out), 10 0V (out), 14 VIN (power)

## NMV0515S
designator U?
3kVDC Isolated 1W Dual Output; Note: Pins 3 and 4 are not present.; Published: 8-Jun-2000; LatestRevisionDate: 17-Jul-2002; LatestRevisionNote: Re-released for DXP Platform.; DatasheetVersion: Jul-1996; PackageVersion: 1996; PackageReference: NPSIP7D7; Publisher: Altium Limited; PackageDescription: SIP; 7 Leads (2 Absent); Body 19.5 x 6 mm (LxW typ); Pitch 2.54 mm; ComponentLink1Description: Manufacturer Link; ComponentLink1URL: http://www.dc-dc.com/; ComponentLink2Description: Datasheet; ComponentLink2URL: http://www.cd4power.com/data/power/ncl/ndc_nmv_3.pdf
footprint NPSIP7D7 (SIP; 7 Leads (2 Absent); Body 19.5 x 6 mm (LxW typ); Pitch 2.54 mm)
pins: 1 VIN (power), 2 GND (power), 5 -V (out), 6 0V (out), 7 +V (out)

## NMV0515SA
designator U?
3kVDC Isolated 1W Single Output; Note: Pins 3, 4 and 6 are not present.; Published: 8-Jun-2000; LatestRevisionDate: 17-Jul-2002; LatestRevisionNote: Re-released for DXP Platform.; DatasheetVersion: Jul-1996; PackageVersion: 1996; PackageReference: NPSIP7C5; Publisher: Altium Limited; PackageDescription: SIP; 7 Leads (3 Absent); Body 19.5 x 6 mm (LxW typ); Pitch 2.54 mm; ComponentLink1Description: Manufacturer Link; ComponentLink1URL: http://www.dc-dc.com/; ComponentLink2Description: Datasheet; ComponentLink2URL: http://www.cd4power.com/data/power/ncl/ndc_nmv_3.pdf
footprint NPSIP7C5 (SIP; 7 Leads (3 Absent); Body 19.5 x 6 mm (LxW typ); Pitch 2.54 mm)
pins: 1 VIN (power), 2 GND (power), 5 0V (out), 7 +V (out)

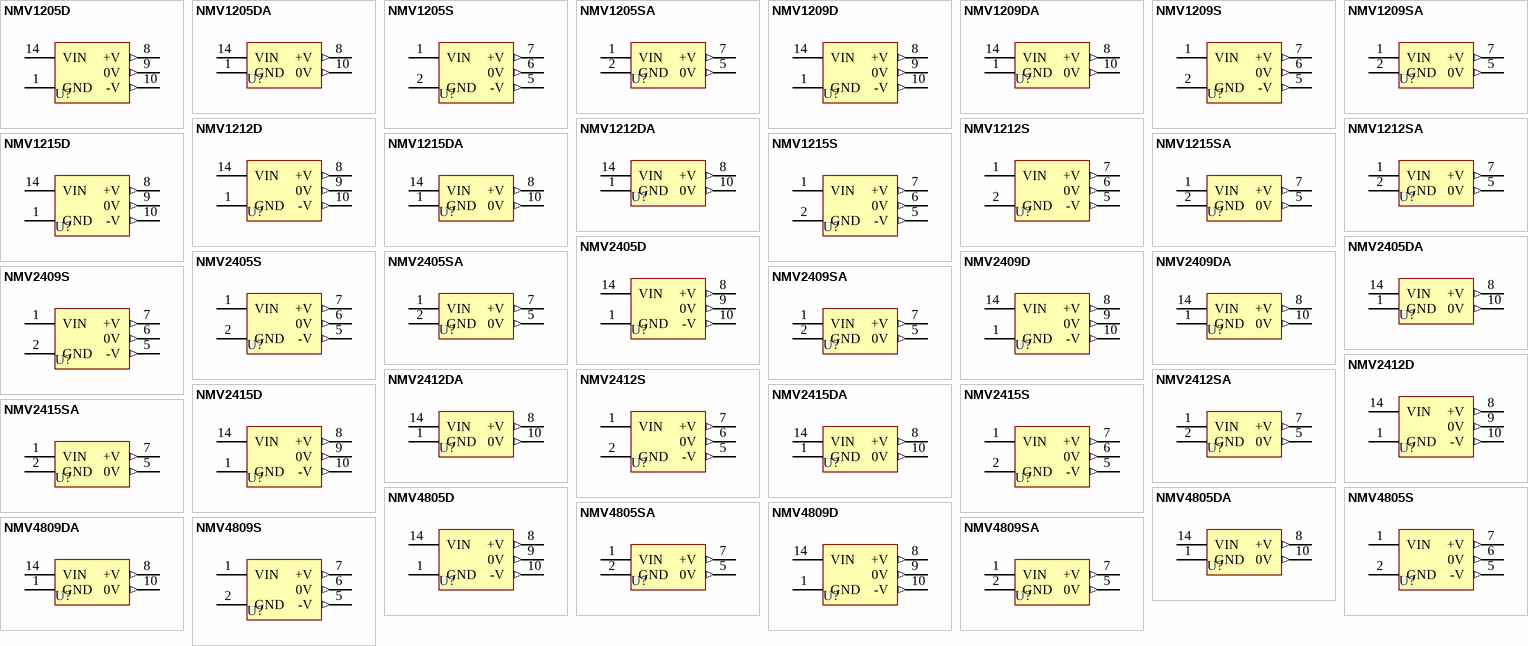
[diagram p6: symbols NMV1205D to NMV4809SA]

## NMV1205D
designator U?
3kVDC Isolated 1W Dual Output; Note: Pin 7 is No Internal Connection (NC) pin and is not drawn. Pins 2-6, 11, 12 and 13 are not present.; Published: 8-Jun-2000; LatestRevisionDate: 17-Jul-2002; LatestRevisionNote: Re-released for DXP Platform.; DatasheetVersion: Jul-1996; PackageVersion: 1996; PackageReference: NPDIP14E3; Publisher: Altium Limited; PackageDescription: DIP; 14 Rectangular pins (8 Absent); Row Space 7.62 mm; Pitch 2.54 mm; ComponentLink1Description: Manufacturer Link; ComponentLink1URL: http://www.dc-dc.com/; ComponentLink2Description: Datasheet; ComponentLink2URL: http://www.cd4power.com/data/power/ncl/ndc_nmv_3.pdf
footprint NPDIP14E3 (DIP; 14 Rectangular pins (8 Absent); Row Space 7.62 mm; Pitch 2.54 mm)
pins: 1 GND (power), 8 +V (out), 9 0V (out), 10 -V (out), 14 VIN (power)

## NMV1205DA
designator U?
3kVDC Isolated 1W Single Output; Note: Pin 7 is No Internal Connection (NC) pin and is not drawn. Pins 2-6, 9, 12 and 13 are not present.; Published: 8-Jun-2000; LatestRevisionDate: 17-Jul-2002; LatestRevisionNote: PCB footprint, 'DIP-P5(14)/X1.2' replaced; Re-released for DXP Platform.; DatasheetVersion: Jul-1996; PackageVersion: 1996; PackageReference: NPDIP14D1; Publisher: Altium Limited; PackageDescription: DIP; 14 Rectangular pins (9 Absent); Row Space 7.62 mm; Pitch 2.54 mm; ComponentLink1Description: Manufacturer Link; ComponentLink1URL: http://www.dc-dc.com/; ComponentLink2Description: Datasheet; ComponentLink2URL: http://www.cd4power.com/data/power/ncl/ndc_nmv_3.pdf
footprint NPDIP14D1 (DIP; 14 Rectangular pins (9 Absent); Row Space 7.62 mm; Pitch 2.54 mm)
pins: 1 GND (power), 8 +V (out), 10 0V (out), 14 VIN (power)

## NMV1205S
designator U?
3kVDC Isolated 1W Dual Output; Note: Pins 3 and 4 are not present.; Published: 8-Jun-2000; LatestRevisionDate: 17-Jul-2002; LatestRevisionNote: Re-released for DXP Platform.; DatasheetVersion: Jul-1996; PackageVersion: 1996; PackageReference: NPSIP7D7; Publisher: Altium Limited; PackageDescription: SIP; 7 Leads (2 Absent); Body 19.5 x 6 mm (LxW typ); Pitch 2.54 mm; ComponentLink1Description: Manufacturer Link; ComponentLink1URL: http://www.dc-dc.com/; ComponentLink2Description: Datasheet; ComponentLink2URL: http://www.cd4power.com/data/power/ncl/ndc_nmv_3.pdf
footprint NPSIP7D7 (SIP; 7 Leads (2 Absent); Body 19.5 x 6 mm (LxW typ); Pitch 2.54 mm)
pins: 1 VIN (power), 2 GND (power), 5 -V (out), 6 0V (out), 7 +V (out)

## NMV1205SA
designator U?
3kVDC Isolated 1W Single Output; Note: Pins 3, 4 and 6 are not present.; Published: 8-Jun-2000; LatestRevisionDate: 17-Jul-2002; LatestRevisionNote: Re-released for DXP Platform.; DatasheetVersion: Jul-1996; PackageVersion: 1996; PackageReference: NPSIP7C5; Publisher: Altium Limited; PackageDescription: SIP; 7 Leads (3 Absent); Body 19.5 x 6 mm (LxW typ); Pitch 2.54 mm; ComponentLink1Description: Manufacturer Link; ComponentLink1URL: http://www.dc-dc.com/; ComponentLink2Description: Datasheet; ComponentLink2URL: http://www.cd4power.com/data/power/ncl/ndc_nmv_3.pdf
footprint NPSIP7C5 (SIP; 7 Leads (3 Absent); Body 19.5 x 6 mm (LxW typ); Pitch 2.54 mm)
pins: 1 VIN (power), 2 GND (power), 5 0V (out), 7 +V (out)

## NMV1209D
designator U?
3kVDC Isolated 1W Dual Output; Note: Pin 7 is No Internal Connection (NC) pin and is not drawn. Pins 2-6, 11, 12 and 13 are not present.; Published: 8-Jun-2000; LatestRevisionDate: 17-Jul-2002; LatestRevisionNote: Re-released for DXP Platform.; DatasheetVersion: Jul-1996; PackageVersion: 1996; PackageReference: NPDIP14E3; Publisher: Altium Limited; PackageDescription: DIP; 14 Rectangular pins (8 Absent); Row Space 7.62 mm; Pitch 2.54 mm; ComponentLink1Description: Manufacturer Link; ComponentLink1URL: http://www.dc-dc.com/; ComponentLink2Description: Datasheet; ComponentLink2URL: http://www.cd4power.com/data/power/ncl/ndc_nmv_3.pdf
footprint NPDIP14E3 (DIP; 14 Rectangular pins (8 Absent); Row Space 7.62 mm; Pitch 2.54 mm)
pins: 1 GND (power), 8 +V (out), 9 0V (out), 10 -V (out), 14 VIN (power)

## NMV1209DA
designator U?
3kVDC Isolated 1W Single Output; Note: Pin 7 is No Internal Connection (NC) pin and is not drawn. Pins 2-6, 9, 12 and 13 are not present.; Published: 8-Jun-2000; LatestRevisionDate: 17-Jul-2002; LatestRevisionNote: PCB footprint, 'DIP-P5(14)/X1.2' replaced; Re-released for DXP Platform.; DatasheetVersion: Jul-1996; PackageVersion: 1996; PackageReference: NPDIP14D1; Publisher: Altium Limited; PackageDescription: DIP; 14 Rectangular pins (9 Absent); Row Space 7.62 mm; Pitch 2.54 mm; ComponentLink1Description: Manufacturer Link; ComponentLink1URL: http://www.dc-dc.com/; ComponentLink2Description: Datasheet; ComponentLink2URL: http://www.cd4power.com/data/power/ncl/ndc_nmv_3.pdf
footprint NPDIP14D1 (DIP; 14 Rectangular pins (9 Absent); Row Space 7.62 mm; Pitch 2.54 mm)
pins: 1 GND (power), 8 +V (out), 10 0V (out), 14 VIN (power)

## NMV1209S
designator U?
3kVDC Isolated 1W Dual Output; Note: Pins 3 and 4 are not present.; Published: 8-Jun-2000; LatestRevisionDate: 17-Jul-2002; LatestRevisionNote: Re-released for DXP Platform.; DatasheetVersion: Jul-1996; PackageVersion: 1996; PackageReference: NPSIP7D7; Publisher: Altium Limited; PackageDescription: SIP; 7 Leads (2 Absent); Body 19.5 x 6 mm (LxW typ); Pitch 2.54 mm; ComponentLink1Description: Manufacturer Link; ComponentLink1URL: http://www.dc-dc.com/; ComponentLink2Description: Datasheet; ComponentLink2URL: http://www.cd4power.com/data/power/ncl/ndc_nmv_3.pdf
footprint NPSIP7D7 (SIP; 7 Leads (2 Absent); Body 19.5 x 6 mm (LxW typ); Pitch 2.54 mm)
pins: 1 VIN (power), 2 GND (power), 5 -V (out), 6 0V (out), 7 +V (out)

## NMV1209SA
designator U?
3kVDC Isolated 1W Single Output; Note: Pins 3, 4 and 6 are not present.; Published: 8-Jun-2000; LatestRevisionDate: 17-Jul-2002; LatestRevisionNote: Re-released for DXP Platform.; DatasheetVersion: Jul-1996; PackageVersion: 1996; PackageReference: NPSIP7C5; Publisher: Altium Limited; PackageDescription: SIP; 7 Leads (3 Absent); Body 19.5 x 6 mm (LxW typ); Pitch 2.54 mm; ComponentLink1Description: Manufacturer Link; ComponentLink1URL: http://www.dc-dc.com/; ComponentLink2Description: Datasheet; ComponentLink2URL: http://www.cd4power.com/data/power/ncl/ndc_nmv_3.pdf
footprint NPSIP7C5 (SIP; 7 Leads (3 Absent); Body 19.5 x 6 mm (LxW typ); Pitch 2.54 mm)
pins: 1 VIN (power), 2 GND (power), 5 0V (out), 7 +V (out)

## NMV1212D
designator U?
3kVDC Isolated 1W Dual Output; Note: Pin 7 is No Internal Connection (NC) pin and is not drawn. Pins 2-6, 11, 12 and 13 are not present.; Published: 8-Jun-2000; LatestRevisionDate: 17-Jul-2002; LatestRevisionNote: Re-released for DXP Platform.; DatasheetVersion: Jul-1996; PackageVersion: 1996; PackageReference: NPDIP14E3; Publisher: Altium Limited; PackageDescription: DIP; 14 Rectangular pins (8 Absent); Row Space 7.62 mm; Pitch 2.54 mm; ComponentLink1Description: Manufacturer Link; ComponentLink1URL: http://www.dc-dc.com/; ComponentLink2Description: Datasheet; ComponentLink2URL: http://www.cd4power.com/data/power/ncl/ndc_nmv_3.pdf
footprint NPDIP14E3 (DIP; 14 Rectangular pins (8 Absent); Row Space 7.62 mm; Pitch 2.54 mm)
pins: 1 GND (power), 8 +V (out), 9 0V (out), 10 -V (out), 14 VIN (power)

## NMV1212DA
designator U?
3kVDC Isolated 1W Single Output; Note: Pin 7 is No Internal Connection (NC) pin and is not drawn. Pins 2-6, 9, 12 and 13 are not present.; Published: 8-Jun-2000; LatestRevisionDate: 17-Jul-2002; LatestRevisionNote: PCB footprint, 'DIP-P5(14)/X1.2' replaced; Re-released for DXP Platform.; DatasheetVersion: Jul-1996; PackageVersion: 1996; PackageReference: NPDIP14D1; Publisher: Altium Limited; PackageDescription: DIP; 14 Rectangular pins (9 Absent); Row Space 7.62 mm; Pitch 2.54 mm; ComponentLink1Description: Manufacturer Link; ComponentLink1URL: http://www.dc-dc.com/; ComponentLink2Description: Datasheet; ComponentLink2URL: http://www.cd4power.com/data/power/ncl/ndc_nmv_3.pdf
footprint NPDIP14D1 (DIP; 14 Rectangular pins (9 Absent); Row Space 7.62 mm; Pitch 2.54 mm)
pins: 1 GND (power), 8 +V (out), 10 0V (out), 14 VIN (power)

## NMV1212S
designator U?
3kVDC Isolated 1W Dual Output; Note: Pins 3 and 4 are not present.; Published: 8-Jun-2000; LatestRevisionDate: 17-Jul-2002; LatestRevisionNote: Re-released for DXP Platform.; DatasheetVersion: Jul-1996; PackageVersion: 1996; PackageReference: NPSIP7D7; Publisher: Altium Limited; PackageDescription: SIP; 7 Leads (2 Absent); Body 19.5 x 6 mm (LxW typ); Pitch 2.54 mm; ComponentLink1Description: Manufacturer Link; ComponentLink1URL: http://www.dc-dc.com/; ComponentLink2Description: Datasheet; ComponentLink2URL: http://www.cd4power.com/data/power/ncl/ndc_nmv_3.pdf
footprint NPSIP7D7 (SIP; 7 Leads (2 Absent); Body 19.5 x 6 mm (LxW typ); Pitch 2.54 mm)
pins: 1 VIN (power), 2 GND (power), 5 -V (out), 6 0V (out), 7 +V (out)

## NMV1212SA
designator U?
3kVDC Isolated 1W Single Output; Note: Pins 3, 4 and 6 are not present.; Published: 8-Jun-2000; LatestRevisionDate: 17-Jul-2002; LatestRevisionNote: Re-released for DXP Platform.; DatasheetVersion: Jul-1996; PackageVersion: 1996; PackageReference: NPSIP7C5; Publisher: Altium Limited; PackageDescription: SIP; 7 Leads (3 Absent); Body 19.5 x 6 mm (LxW typ); Pitch 2.54 mm; ComponentLink1Description: Manufacturer Link; ComponentLink1URL: http://www.dc-dc.com/; ComponentLink2Description: Datasheet; ComponentLink2URL: http://www.cd4power.com/data/power/ncl/ndc_nmv_3.pdf
footprint NPSIP7C5 (SIP; 7 Leads (3 Absent); Body 19.5 x 6 mm (LxW typ); Pitch 2.54 mm)
pins: 1 VIN (power), 2 GND (power), 5 0V (out), 7 +V (out)

## NMV1215D
designator U?
3kVDC Isolated 1W Dual Output; Note: Pin 7 is No Internal Connection (NC) pin and is not drawn. Pins 2-6, 11, 12 and 13 are not present.; Published: 8-Jun-2000; LatestRevisionDate: 17-Jul-2002; LatestRevisionNote: Re-released for DXP Platform.; DatasheetVersion: Jul-1996; PackageVersion: 1996; PackageReference: NPDIP14E3; Publisher: Altium Limited; PackageDescription: DIP; 14 Rectangular pins (8 Absent); Row Space 7.62 mm; Pitch 2.54 mm; ComponentLink1Description: Manufacturer Link; ComponentLink1URL: http://www.dc-dc.com/; ComponentLink2Description: Datasheet; ComponentLink2URL: http://www.cd4power.com/data/power/ncl/ndc_nmv_3.pdf
footprint NPDIP14E3 (DIP; 14 Rectangular pins (8 Absent); Row Space 7.62 mm; Pitch 2.54 mm)
pins: 1 GND (power), 8 +V (out), 9 0V (out), 10 -V (out), 14 VIN (power)